# Altium footprint library CAP-2 J-lead.PcbLib: 1 footprints
Each footprint in its own frame and in the unit in brackets; x right, y up, seen from the top. Pads: shape width x height; smd on the part's side, far side on the other; paste and mask are expansions set on the pad; w line width, h text height; cw(c..) or ccw(c..) is an arc to the next point about the centre after c.
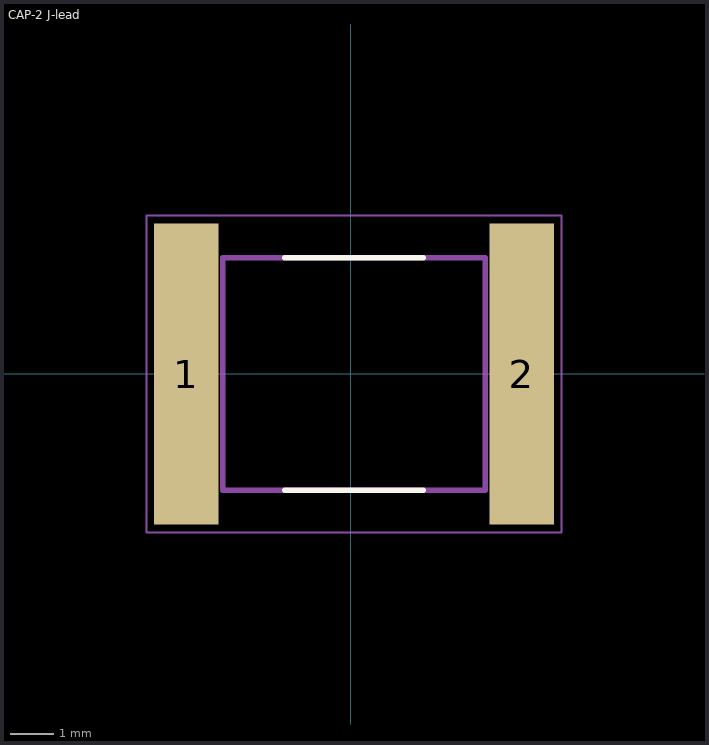
[diagram p0: the footprint, top view; thin cyan lines are the x and y axes]

## CAP-2 J-lead [mm] "KTJ500B476M76BFT00, 6.60mm x 7.80mm, Ceramic Capacitor X7R Stacked SMD, 2 J-Lead"
height 8.5
pads (2):
  rect 1.5x7 smd: 1(-3.829,-0.009) 2(3.971,-0.009)
Top Overlay:
  lines w0.127: -1.539,-2.709 1.681,-2.709 ; -1.539,2.691 1.681,2.691
Mechanical 13:
  lines w0.127: -2.979,-2.709 -2.979,2.691 ; -2.979,-2.709 3.121,-2.709 ; -2.979,-2.709 -2.979,2.691 ; -2.979,-2.709 3.121,-2.709 ; -2.979,2.691 3.121,2.691 ; -2.979,2.691 3.121,2.691 ; 3.121,-2.709 3.121,2.691 ; 3.121,-2.709 3.121,2.691
Mechanical 15:
  lines w0.05: -4.755,-3.692 -4.755,3.674 4.897,3.674 4.897,-3.692 -4.755,-3.692
3D body: height 0.12, standoff -21.13, extent 0,0 0,0
3D body: height 8.5, standoff 0, extent -3.862,-3.3 3.963,3.088